# Altium footprint library Connectors.PcbLib: 65 footprints (part 2 of 5)
Each footprint in its own frame and in the unit in brackets; x right, y up, seen from the top. Pads: shape width x height; smd on the part's side, far side on the other; paste and mask are expansions set on the pad; w line width, h text height; cw(c..) or ccw(c..) is an arc to the next point about the centre after c.
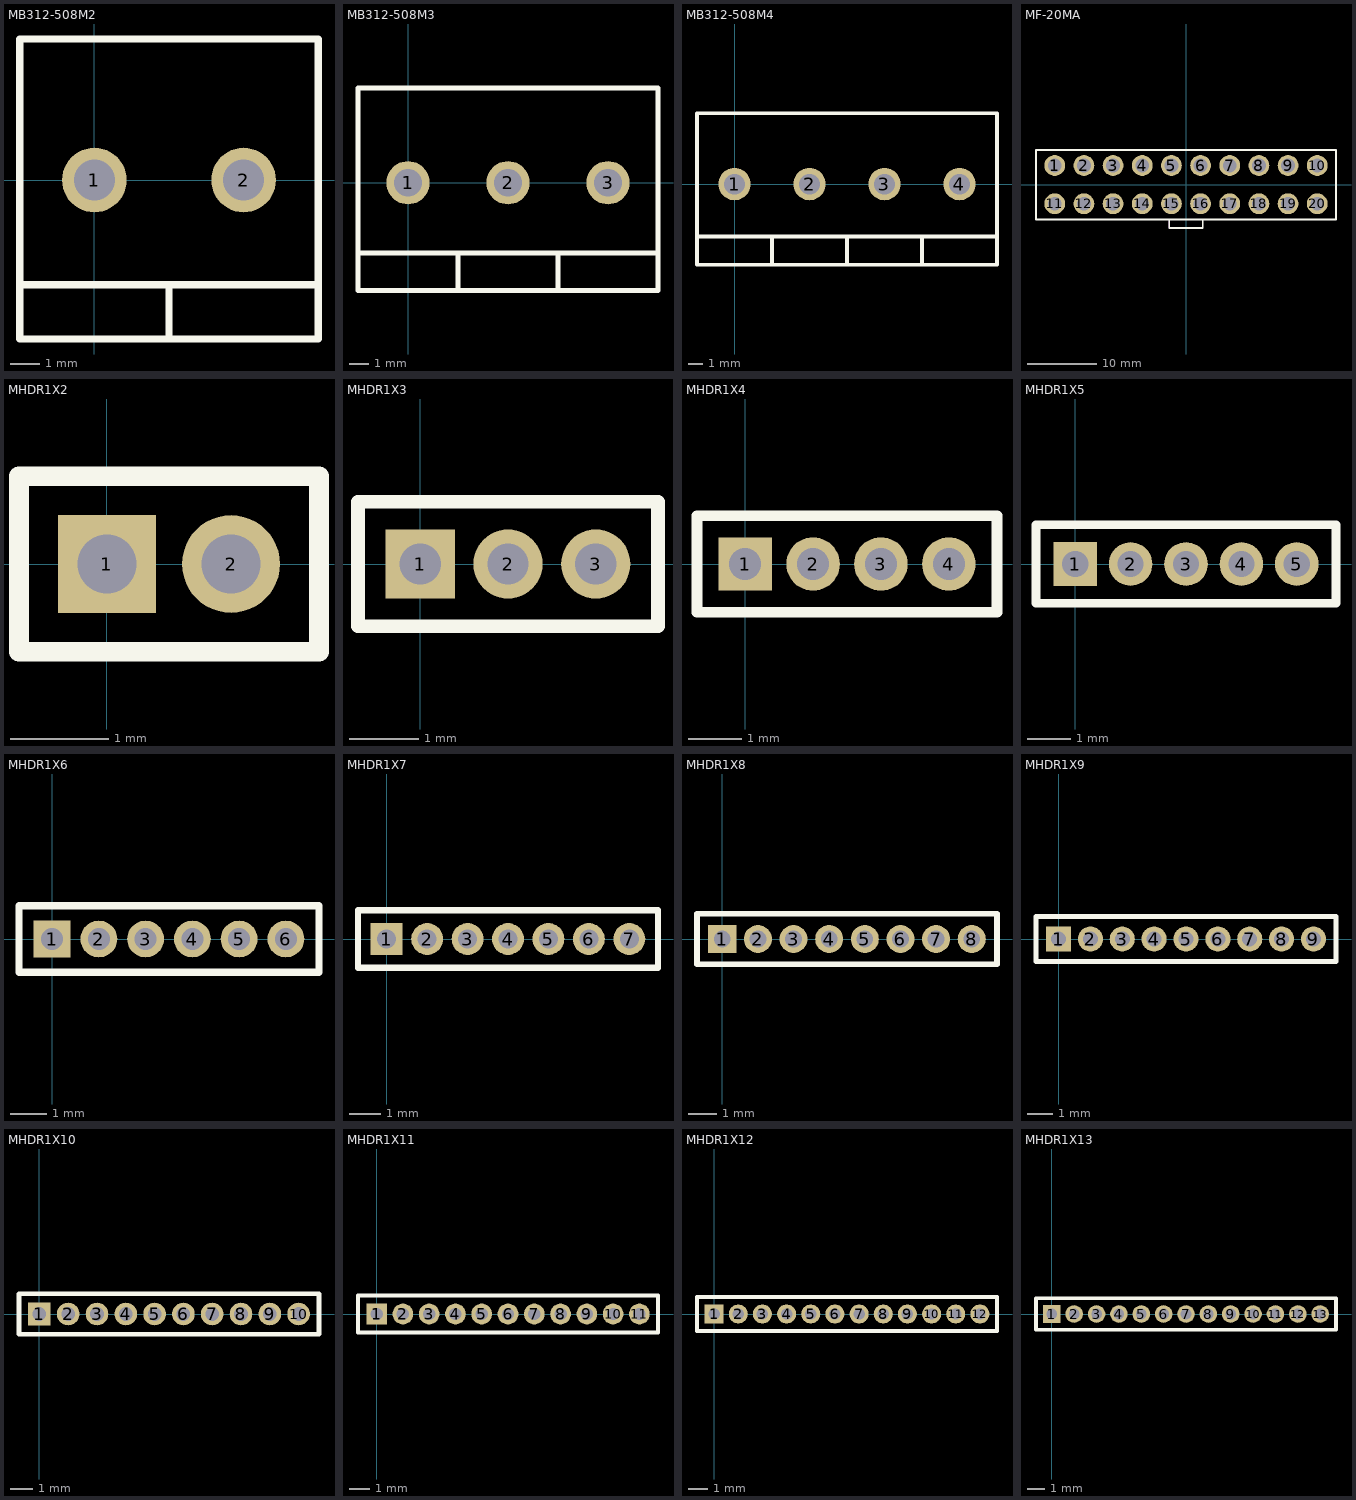
[diagram p1: the footprints below, top view; thin cyan lines are the x and y axes]

## MB312-508M2 [mm]
pads (2):
  round 2.2 hole 1.4: 1(0,0) 2(5.08,0)
Top Overlay:
  lines w0.254: -2.54,-3.556 7.62,-3.556 ; 2.54,-5.41 2.54,-3.556 ; -2.54,-5.41 -2.54,4.801 7.62,4.801 7.62,-5.41 -2.54,-5.41

## MB312-508M3 [mm]
pads (3):
  round 2.2 hole 1.4: 1(0,0) 2(5.08,0) 3(10.16,0)
Top Overlay:
  lines w0.254: -2.54,-3.556 12.7,-3.556 ; 2.54,-5.461 2.54,-3.556 ; 7.62,-5.461 7.62,-3.556 ; -2.54,-5.461 12.7,-5.461 12.7,4.826 -2.54,4.826 -2.54,-5.461

## MB312-508M4 [mm]
pads (4):
  round 2.2 hole 1.4: 1(0,0) 2(5.08,0) 3(10.16,0) 4(15.24,0)
Top Overlay:
  lines w0.254: -2.54,-3.556 17.78,-3.556 ; 2.54,-5.461 2.54,-3.556 ; 7.62,-5.461 7.62,-3.556 ; 12.7,-5.461 12.7,-3.556 ; -2.54,-5.461 -2.54,4.8 17.78,4.8 17.78,-5.461 -2.54,-5.461

## MF-20MA [mm]
pads (20):
  round 3 hole 2: 1(-18.9,2.75) 2(-14.7,2.75) 3(-10.5,2.75) 4(-6.3,2.75) 5(-2.1,2.75) 6(2.1,2.75) 7(6.3,2.75) 8(10.5,2.75) 9(14.7,2.75) 10(18.9,2.75) 11(-18.9,-2.75) 12(-14.7,-2.75) 13(-10.5,-2.75) 14(-6.3,-2.75) 15(-2.1,-2.75) 16(2.1,-2.75) 17(6.3,-2.75) 18(10.5,-2.75) 19(14.7,-2.75) 20(18.9,-2.75)
Top Overlay:
  lines w0.254: -2.4,-5 -2.4,-6.25 2.4,-6.25 2.4,-5 ; -21.6,-5 21.6,-5 21.6,5 -21.6,5 -21.6,-5
Mechanical 1:
  lines w0.102: -2.4,-5 -2.4,-6.25 2.4,-6.25 2.4,-5 ; -21.6,-5 21.6,-5 21.6,5 -21.6,5 -21.6,-5

## MHDR1X2 [mm] "Connector; Header; 2 Position"
pads (2):
  rect 1x1 hole 0.6: 1(0,0)
  round 1 hole 0.6: 2(1.27,0)
Top Overlay:
  lines w0.2: -0.9,-0.9 -0.9,0.9 2.17,0.9 2.17,-0.9 -0.9,-0.9

## MHDR1X3 [mm] "Connector; Header; 3 Position"
pads (3):
  rect 1x1 hole 0.6: 1(0,0)
  round 1 hole 0.6: 2(1.27,0) 3(2.54,0)
Top Overlay:
  lines w0.2: -0.9,-0.9 3.44,-0.9 3.44,0.9 -0.9,0.9 -0.9,-0.9

## MHDR1X4 [mm] "Connector; Header; 4 Position"
pads (4):
  rect 1x1 hole 0.6: 1(0,0)
  round 1 hole 0.6: 2(1.27,0) 3(2.54,0) 4(3.81,0)
Top Overlay:
  lines w0.2: -0.9,-0.9 4.71,-0.9 4.71,0.9 -0.9,0.9 -0.9,-0.9

## MHDR1X5 [mm] "Connector; Header; 5 Position"
pads (5):
  rect 1x1 hole 0.6: 1(0,0)
  round 1 hole 0.6: 2(1.27,0) 3(2.54,0) 4(3.81,0) 5(5.08,0)
Top Overlay:
  lines w0.2: -0.9,-0.9 -0.9,0.9 5.98,0.9 5.98,-0.9 -0.9,-0.9

## MHDR1X6 [mm] "Connector; Header; 6 Position"
pads (6):
  rect 1x1 hole 0.6: 1(0,0)
  round 1 hole 0.6: 2(1.27,0) 3(2.54,0) 4(3.81,0) 5(5.08,0) 6(6.35,0)
Top Overlay:
  lines w0.2: -0.9,-0.9 -0.9,0.9 7.25,0.9 7.25,-0.9 -0.9,-0.9

## MHDR1X7 [mm] "Connector; Header; 7 Position"
pads (7):
  rect 1x1 hole 0.6: 1(0,0)
  round 1 hole 0.6: 2(1.27,0) 3(2.54,0) 4(3.81,0) 5(5.08,0) 6(6.35,0) 7(7.62,0)
Top Overlay:
  lines w0.2: -0.9,-0.9 -0.9,0.9 8.52,0.9 8.52,-0.9 -0.9,-0.9

## MHDR1X8 [mm] "Connector; Header; 8 Position"
pads (8):
  rect 1x1 hole 0.6: 1(0,0)
  round 1 hole 0.6: 2(1.27,0) 3(2.54,0) 4(3.81,0) 5(5.08,0) 6(6.35,0) 7(7.62,0) 8(8.89,0)
Top Overlay:
  lines w0.2: -0.9,-0.9 -0.9,0.9 9.79,0.9 9.79,-0.9 -0.9,-0.9

## MHDR1X9 [mm] "Connector; Header; 9 Position"
pads (9):
  rect 1x1 hole 0.6: 1(0,0)
  round 1 hole 0.6: 2(1.27,0) 3(2.54,0) 4(3.81,0) 5(5.08,0) 6(6.35,0) 7(7.62,0) 8(8.89,0) 9(10.16,0)
Top Overlay:
  lines w0.2: -0.9,-0.9 11.06,-0.9 11.06,0.9 -0.9,0.9 -0.9,-0.9

## MHDR1X10 [mm] "Connector; Header; 10 Position"
pads (10):
  rect 1x1 hole 0.6: 1(0,0)
  round 1 hole 0.6: 2(1.27,0) 3(2.54,0) 4(3.81,0) 5(5.08,0) 6(6.35,0) 7(7.62,0) 8(8.89,0) 9(10.16,0) 10(11.43,0)
Top Overlay:
  lines w0.2: -0.9,-0.9 12.33,-0.9 12.33,0.9 -0.9,0.9 -0.9,-0.9

## MHDR1X11 [mm] "Connector; Header; 11 Position"
pads (11):
  rect 1x1 hole 0.6: 1(0,0)
  round 1 hole 0.6: 2(1.27,0) 3(2.54,0) 4(3.81,0) 5(5.08,0) 6(6.35,0) 7(7.62,0) 8(8.89,0) 9(10.16,0) 10(11.43,0) 11(12.7,0)
Top Overlay:
  lines w0.2: -0.9,-0.9 -0.9,0.9 13.6,0.9 13.6,-0.9 -0.9,-0.9

## MHDR1X12 [mm] "Connector; Header; 12 Position"
pads (12):
  rect 1x1 hole 0.6: 1(0,0)
  round 1 hole 0.6: 2(1.27,0) 3(2.54,0) 4(3.81,0) 5(5.08,0) 6(6.35,0) 7(7.62,0) 8(8.89,0) 9(10.16,0) 10(11.43,0) 11(12.7,0) 12(13.97,0)
Top Overlay:
  lines w0.2: -0.9,-0.9 14.87,-0.9 14.87,0.9 -0.9,0.9 -0.9,-0.9

## MHDR1X13 [mm] "Connector; Header; 13 Position"
pads (13):
  rect 1x1 hole 0.6: 1(0,0)
  round 1 hole 0.6: 2(1.27,0) 3(2.54,0) 4(3.81,0) 5(5.08,0) 6(6.35,0) 7(7.62,0) 8(8.89,0) 9(10.16,0) 10(11.43,0) 11(12.7,0) 12(13.97,0) 13(15.24,0)
Top Overlay:
  lines w0.2: -0.9,-0.9 16.14,-0.9 16.14,0.9 -0.9,0.9 -0.9,-0.9